# EAGLE library part DOMINO_QI_MINI (library Domino)
Domino Qi Mini WiFi Module
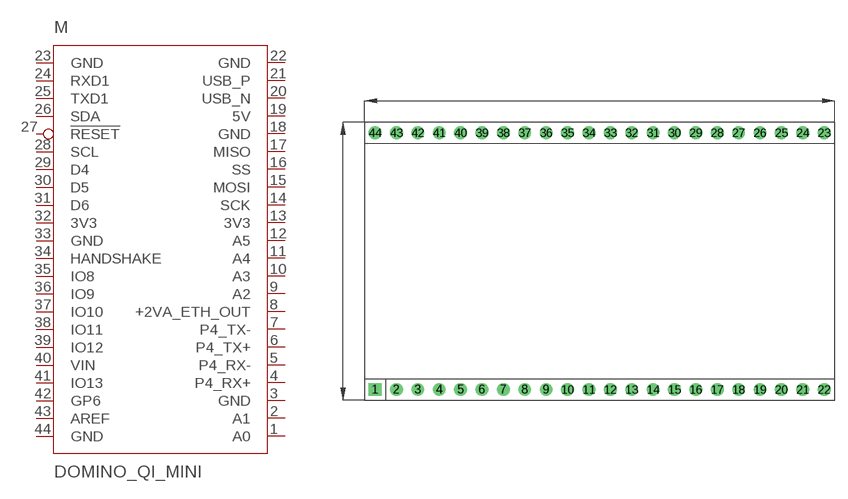
[diagram p44: symbol with the pads of DOMINO_QI_MINI; footprint DOMINO_QI_MINI]

Designator prefix M

## DOMINO_QI_MINI  [DOMINO_QI_MINI]
1  A0
2  A1
3  GND  pwr
4  P4_RX+
5  P4_RX-
6  P4_TX+
7  P4_TX-
8  +2VA_ETH_OUT  sup
9  A2
10  A3
11  A4
12  A5
13  3V3  sup
14  SCK
15  MOSI
16  SS
17  MISO
18  GND  pwr
19  5V  sup
20  USB_N
21  USB_P
22  GND  pwr
23  GND  pwr
24  RXD1
25  TXD1
26  SDA
27  !RESET  in
28  SCL
29  D4
30  D5
31  D6
32  3V3  sup
33  GND  pwr
34  HANDSHAKE
35  IO8
36  IO9
37  IO10
38  IO11
39  IO12
40  VIN  pwr
41  IO13
42  GP6
43  AREF  pas
44  GND  pwr

## Footprint DOMINO_QI_MINI (pad centres in mm)
Domino Qi Mini WiFi Module
drill 1.016 square: 1 -26.67,-15.24
drill 1.016: 2 -24.13,-15.24; 3 -21.59,-15.24; 4 -19.05,-15.24; 5 -16.51,-15.24; 6 -13.97,-15.24; 7 -11.43,-15.24; 8 -8.89,-15.24; 9 -6.35,-15.24; 10 -3.81,-15.24; 11 -1.27,-15.24; 12 1.27,-15.24; 13 3.81,-15.24; 14 6.35,-15.24; 15 8.89,-15.24; 16 11.43,-15.24; 17 13.97,-15.24; 18 16.51,-15.24; 19 19.05,-15.24; 20 21.59,-15.24; 21 24.13,-15.24; 22 26.67,-15.24; 23 26.67,15.24; 24 24.13,15.24; 25 21.59,15.24; 26 19.05,15.24; 27 16.51,15.24; 28 13.97,15.24; 29 11.43,15.24; 30 8.89,15.24; 31 6.35,15.24; 32 3.81,15.24; 33 1.27,15.24; 34 -1.27,15.24; 35 -3.81,15.24; 36 -6.35,15.24; 37 -8.89,15.24; 38 -11.43,15.24; 39 -13.97,15.24; 40 -16.51,15.24; 41 -19.05,15.24; 42 -21.59,15.24; 43 -24.13,15.24; 44 -26.67,15.24